# Altium footprint library SO-8_SE.PcbLib: 1 footprints
Each footprint in its own frame and in the unit in brackets; x right, y up, seen from the top. Pads: shape width x height; smd on the part's side, far side on the other; paste and mask are expansions set on the pad; w line width, h text height; cw(c..) or ccw(c..) is an arc to the next point about the centre after c.
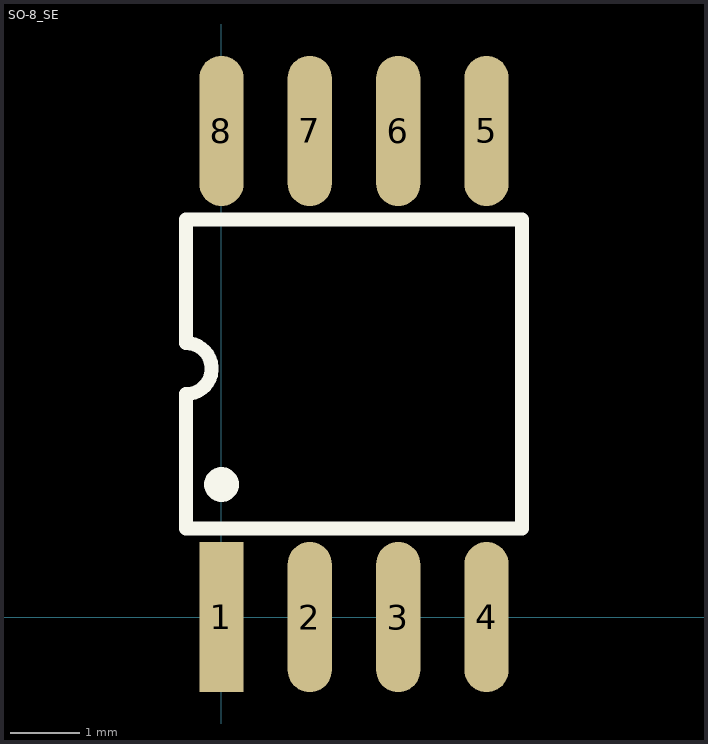
[diagram p0: the footprint, top view; thin cyan lines are the x and y axes]

## SO-8_SE [mil]
pads (8):
  rect 25x85 smd: 1(0,0)
  oval 25x85 smd: 2(50,0) 3(100,0) 4(150,0) 5(150,275) 6(100,275) 7(50,275) 8(0,275)
Top Overlay:
  circle w9.84: c0.08,75 r4.92
  lines w7.87: -20,125 -20,50 170,50 170,225 -20,225 -20,155 cw(c-20,140.56) -20,126.13